# Altium schematic symbol library NDS355AN.Schlib: 1 symbol
Pins are listed as number, name and electrical type; pins without a type are passive.

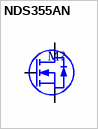
[diagram p0: symbol NDS355AN]

## NDS355AN
designator M?
30V 1.7A N-Channel
pins: 1 G, 2 S, 3 D